# Altium footprint library Synthiam.PcbLib: 481 footprints (part 11 of 31)
Each footprint in its own frame and in the unit in brackets; x right, y up, seen from the top. Pads: shape width x height; smd on the part's side, far side on the other; paste and mask are expansions set on the pad; w line width, h text height; cw(c..) or ccw(c..) is an arc to the next point about the centre after c.
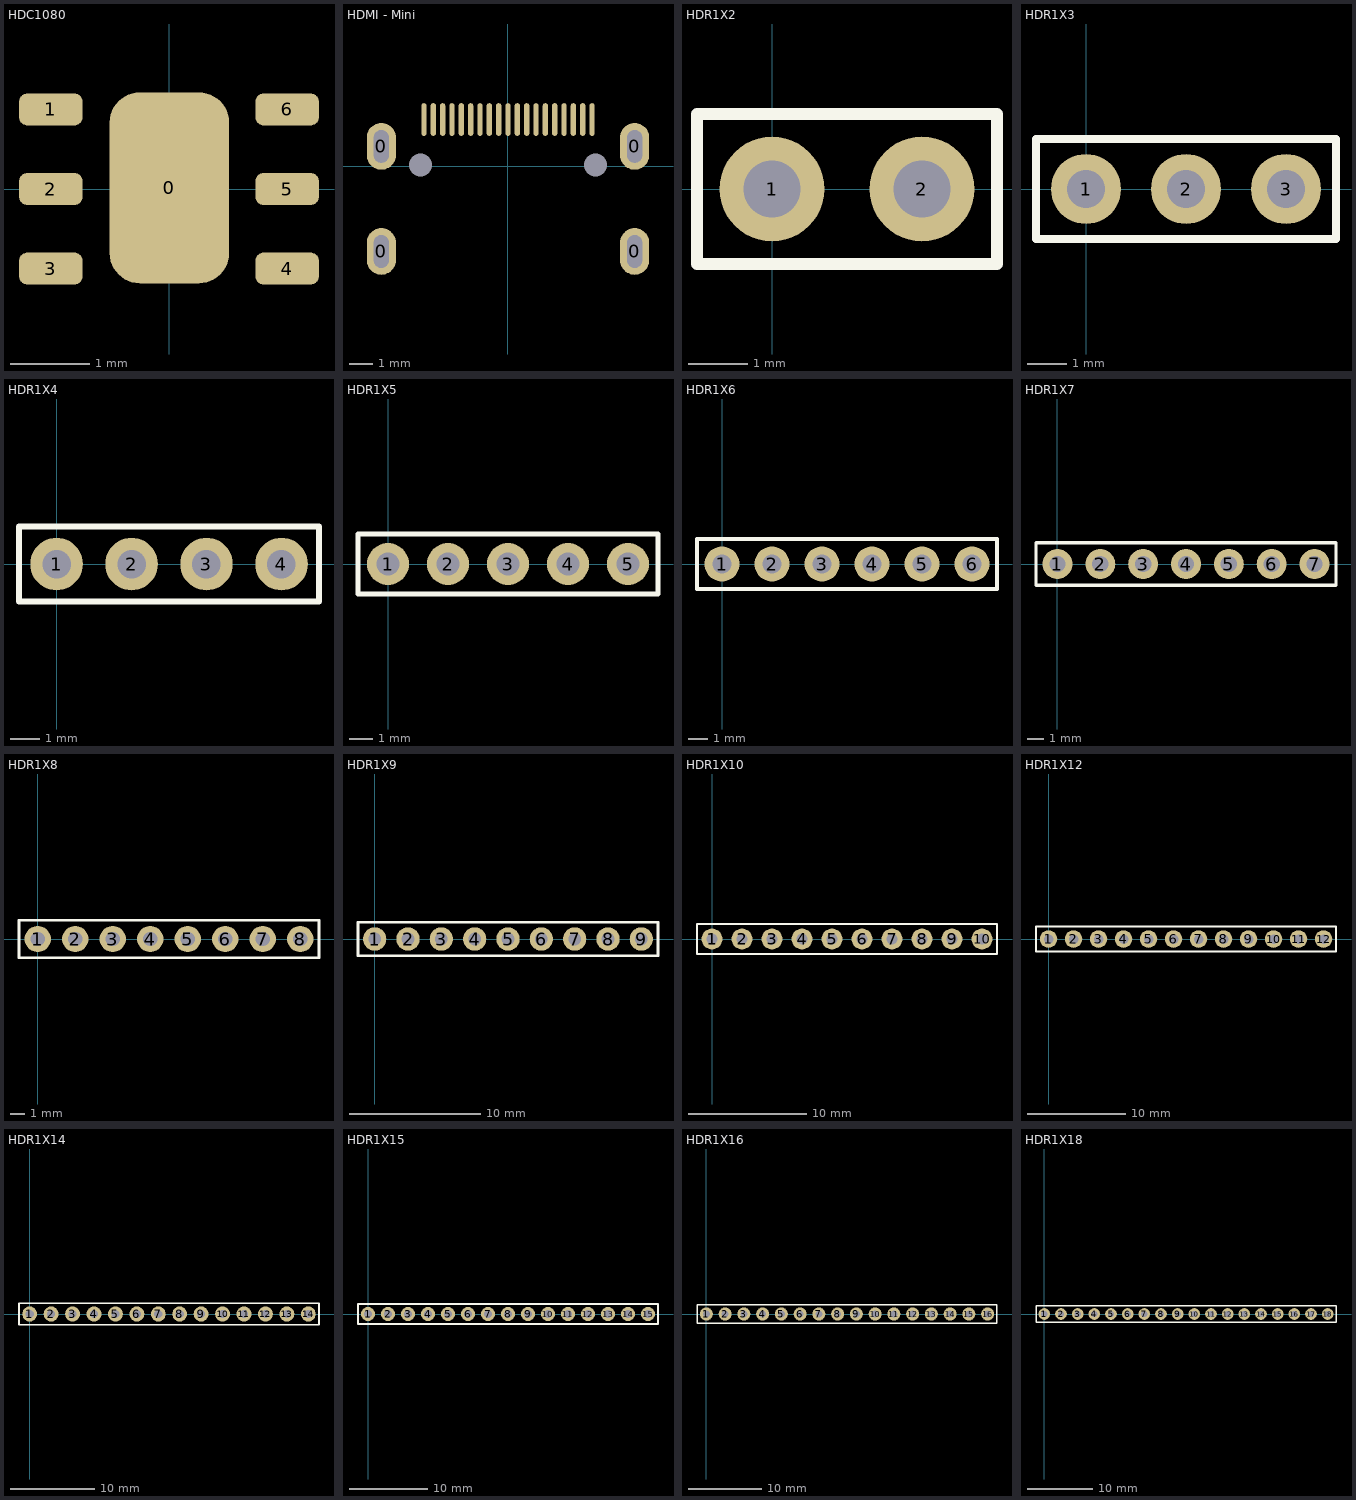
[diagram p10: the footprints below, top view; thin cyan lines are the x and y axes]

## HDC1080 [mm]
pads (7):
  rrect50% 1.5x2.4 smd: 0(0.005,0.015)
  rrect50% 0.8x0.4 smd: 1(-1.485,1) 2(-1.485,0) 3(-1.485,-1) 4(1.485,-1) 5(1.485,0) 6(1.485,1)

## HDMI - Mini [mm]
pads (25):
  oval 1.25x2 hole 0.65 slot 1.4 at 90 deg: 0(-5.425,-3.65) 0(-5.425,0.85) 0(5.425,-3.65) 0(5.425,0.85)
  round 0 hole 1: 0(-3.75,0.05) 0(3.75,0.05)
  oval 0.23x1.4 smd: 1(3.6,2) 2(3.2,2) 3(2.8,2) 4(2.4,2) 5(2,2) 6(1.6,2) 7(1.2,2) 8(0.8,2) 9(0.4,2) 10(0,2) 11(-0.4,2) 12(-0.8,2) 13(-1.2,2) 14(-1.6,2) 15(-2,2) 16(-2.4,2) 17(-2.8,2) 18(-3.2,2) 19(-3.6,2)

## HDR1X2 [mil] "Connector; Header; 2 Position"
pads (2):
  round 70 hole 38: 1(0,0) 2(100,0)
Top Overlay:
  lines w7.87: -50,-50 -50,50 150,50 150,-50 -50,-50

## HDR1X3 [mil]
pads (3):
  round 70 hole 38: 1(0,0) 2(100,0) 3(200,0)
Top Overlay:
  lines w8: -50,-50 250,-50 250,50 -50,50 -50,-50

## HDR1X4 [mil] "Connector; Header; 4 Position"
pads (4):
  round 70 hole 38: 1(0,0) 2(100,0) 3(200,0) 4(300,0)
Top Overlay:
  lines w7.87: -50,-50 350,-50 350,50 -50,50 -50,-50

## HDR1X5 [mil]
pads (5):
  round 70 hole 38: 1(0,0) 2(100,0) 3(200,0) 4(300,0) 5(400,0)
Top Overlay:
  lines w8: -50,-50 450,-50 450,50 -50,50 -50,-50

## HDR1X6 [mil]
pads (6):
  round 70 hole 38: 1(0,0) 2(100,0) 3(200,0) 4(300,0) 5(400,0) 6(500,0)
Top Overlay:
  lines w8: -50,-50 -50,50 550,50 550,-50 -50,-50

## HDR1X7 [mil]
pads (7):
  round 70 hole 38: 1(0,0) 2(100,0) 3(200,0) 4(300,0) 5(400,0) 6(500,0) 7(600,0)
Top Overlay:
  lines w8: -50,-50 650,-50 650,50 -50,50 -50,-50

## HDR1X8 [mil]
pads (8):
  round 70 hole 38: 1(0,0) 2(100,0) 3(200,0) 4(300,0) 5(400,0) 6(500,0) 7(600,0) 8(700,0)
Top Overlay:
  lines w7.87: -50,-50 -50,50 750,50 750,-50 -50,-50

## HDR1X9 [mil] "Connector; Header; 9 Position"
pads (9):
  round 70 hole 38: 1(0,0) 2(100,0) 3(200,0) 4(300,0) 5(400,0) 6(500,0) 7(600,0) 8(700,0) 9(800,0)
Top Overlay:
  lines w7.87: -50,-50 850,-50 850,50 -50,50 -50,-50

## HDR1X10 [mil]
pads (10):
  round 70 hole 38: 1(0,0) 2(100,0) 3(200,0) 4(300,0) 5(400,0) 6(500,0) 7(600,0) 8(700,0) 9(800,0) 10(900,0)
Top Overlay:
  lines w8: -50,-50 -50,50 25,50 950,50 950,-50 -50,-50

## HDR1X12 [mil] "Connector; Header; 12 Position"
pads (12):
  round 70 hole 38: 1(0,0) 2(100,0) 3(200,0) 4(300,0) 5(400,0) 6(500,0) 7(600,0) 8(700,0) 9(800,0) 10(900,0) 11(1000,0) 12(1100,0)
Top Overlay:
  lines w7.87: -50,-50 -50,50 25,50 1150,50 1150,-50 -50,-50

## HDR1X14 [mil]
pads (14):
  round 70 hole 38: 1(0,0) 2(100,0) 3(200,0) 4(300,0) 5(400,0) 6(500,0) 7(600,0) 8(700,0) 9(800,0) 10(900,0) 11(1000,0) 12(1100,0) 13(1200,0) 14(1300,0)
Top Overlay:
  lines w8: -50,-50 1350,-50 1350,50 25,50 -50,50 -50,-50

## HDR1X15 [mil] "Connector; Header; 15 Position"
pads (15):
  round 70 hole 38: 1(0,0) 2(100,0) 3(200,0) 4(300,0) 5(400,0) 6(500,0) 7(600,0) 8(700,0) 9(800,0) 10(900,0) 11(1000,0) 12(1100,0) 13(1200,0) 14(1300,0) 15(1400,0)
Top Overlay:
  lines w7.87: -50,-50 -50,50 25,50 1450,50 1450,-50 -50,-50

## HDR1X16 [mil] "Connector; Header; 16 Position"
pads (16):
  round 70 hole 38: 1(0,0) 2(100,0) 3(200,0) 4(300,0) 5(400,0) 6(500,0) 7(600,0) 8(700,0) 9(800,0) 10(900,0) 11(1000,0) 12(1100,0) 13(1200,0) 14(1300,0) 15(1400,0) 16(1500,0)
Top Overlay:
  lines w7.87: -50,-50 -50,50 25,50 1550,50 1550,-50 -50,-50

## HDR1X18 [mil] "Connector; Header; 18 Position"
pads (18):
  round 70 hole 38: 1(0,0) 2(100,0) 3(200,0) 4(300,0) 5(400,0) 6(500,0) 7(600,0) 8(700,0) 9(800,0) 10(900,0) 11(1000,0) 12(1100,0) 13(1200,0) 14(1300,0) 15(1400,0) 16(1500,0) 17(1600,0) 18(1700,0)
Top Overlay:
  lines w7.87: -50,-50 1750,-50 1750,50 25,50 -50,50 -50,-50